# EAGLE library part NRF24L01-SMD (library chiptron_petus_cz)
Mini NRF24L01 SMD -> petus.cz
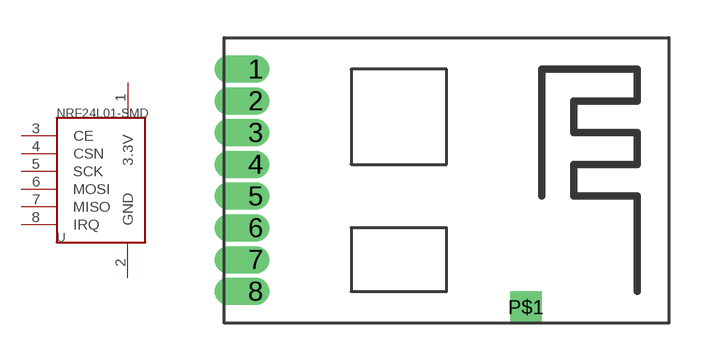
[diagram p5: symbol with the pads of NRF24L01-SMD; footprint NRF24L01-SMD]

Designator prefix -

## NRF24L01-SMD  [NRF24L01-SMD]
1  3.3V
2  GND
3  CE
4  CSN
5  SCK
6  MOSI
7  MISO
8  IRQ

## Footprint NRF24L01-SMD (pad centres in mm)
Mini NFR24L01 SMD -> petus.cz
drill 0.6 offset: 1 -5.08,5.08; 2 -5.08,3.81; 3 -5.08,2.54; 4 -5.08,1.27; 5 -5.08,0; 6 -5.08,-1.27; 7 -5.08,-2.54; 8 -5.08,-3.81
drill 0.6 pad 1.27 square: P$1 5.715,-4.445